# EAGLE library part MPL115A2 (library microbuilder)
MPL115A2 I2C Barometric Pressure Sensor (50-115 kPa/7.25-16.68 PSI) - LGA8 Package Digikey: MPL115A2T1CT-ND
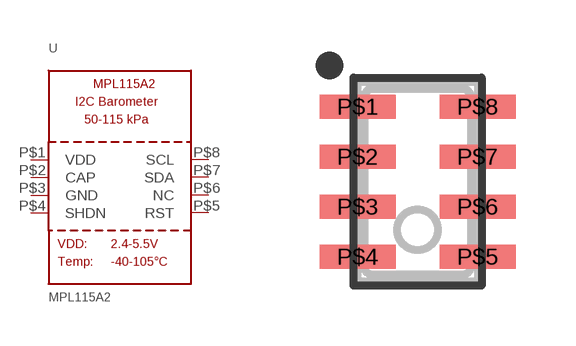
[diagram p200: symbol with the pads of LGA8; footprint LGA8]

Designator prefix U

## MPL115A2  [LGA8]
P$1  VDD  pwr
P$2  CAP
P$3  GND  pwr
P$4  SHDN
P$5  RST
P$6  NC  nc
P$7  SDA
P$8  SCL

## Footprint LGA8 (pad centres in mm)
LGA8 3x5mm 1.25mm Pitch Source: http://www.freescale.com/files/sensors/doc/data_sheet/MPL115A2.pdf
smd 1.9 x 0.6: P$1 -1.5,1.875; P$2 -1.5,0.625; P$3 -1.5,-0.625; P$4 -1.5,-1.875; P$5 1.5,-1.875; P$6 1.5,-0.625; P$7 1.5,0.625; P$8 1.5,1.875